# EAGLE library part TBP02R1-381-06BE (library TBP02R1-381-06BE)
2~24 Poles, Pluggable,Receptacle, Horizontal, 3.81 Pitch, Terminal Block Connector Source: Datasheet <https://www.sameskydevices.com/product/resource/supplyframepdf/tbp02r1-381.pdf>
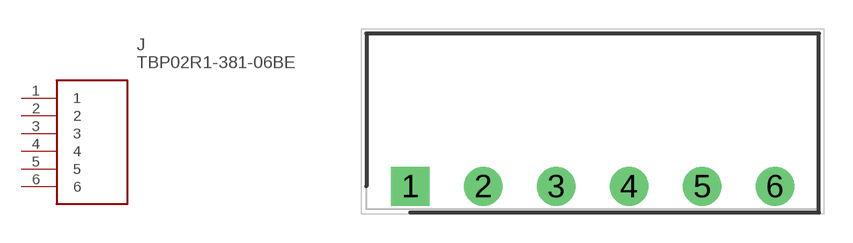
[diagram p0: symbol with the pads of SHDR6W80P0X381_1X6_2365X920X72; footprint SHDR6W80P0X381_1X6_2365X920X72]

Designator prefix J

## TBP02R1-381-06BE (Description: 2~24 Poles, Pluggable,Receptacle, Horizontal, 3.81 Pitch, Terminal Block Connector; Height: 7.2mm; Manufacturer_Name: Same Sky; Manufacturer_Part_Number: TBP02R1-381-06BE; Mouser_Part_Number: 490-TBP02R1-381-06BE; Mouser_Price-Stock: https://www.mouser.co.uk/ProductDetail/CUI-Devices/TBP02R1-381-06BE?qs=PzGy0jfpSMusbQ6fY%252Bjf%252BQ%3D%3D)  [SHDR6W80P0X381_1X6_2365X920X72]
1  1
2  2
3  3
4  4
5  5
6  6

## Footprint SHDR6W80P0X381_1X6_2365X920X72 (pad centres in mm)
TBP02R1-381-06BE
drill 1.35 pad 2.025 square: 1 0,0
drill 1.35 pad 2.025: 2 3.81,0; 3 7.62,0; 4 11.43,0; 5 15.24,0; 6 19.05,0